# EAGLE library part BTS5045-1EJA (library PROFET - Infineon)
BTS5045-1EJA Smart High-Side Power Switch, Single Channel, 45mOhm, PROFET +12V SOIC127P600X170-9N
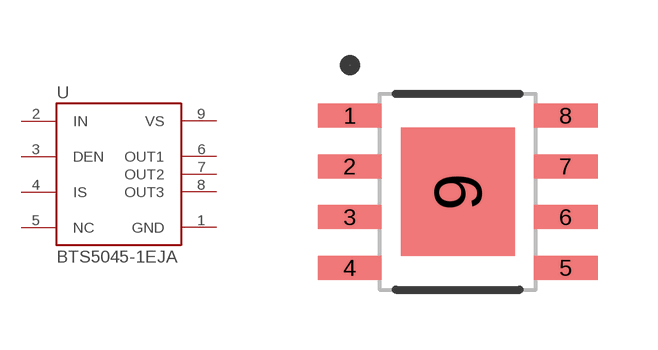
[diagram p58: symbol with the pads of SOIC127P600X170-9N; footprint SOIC127P600X170-9N]

Designator prefix U

## BTS5045-1EJA  [SOIC127P600X170-9N]
1  GND  pwr
2  IN  in
3  DEN  in
4  IS  out
5  NC  pas
6  OUT1  out
7  OUT2  out
8  OUT3  out
9  VS  pwr

## Footprint SOIC127P600X170-9N (pad centres in mm)
Original name SOIC127P600X170-9N Max Component Height - 1.7mm
smd 1.6 x 0.6: 1 -2.7,1.905; 2 -2.7,0.635; 3 -2.7,-0.635; 4 -2.7,-1.905; 5 2.7,-1.905; 6 2.7,-0.635; 7 2.7,0.635; 8 2.7,1.905
smd 2.85 x 3.2: 9 0,0